# Altium footprint library DRY_TI.PcbLib: 1 footprints
Each footprint in its own frame and in the unit in brackets; x right, y up, seen from the top. Pads: shape width x height; smd on the part's side, far side on the other; paste and mask are expansions set on the pad; w line width, h text height; cw(c..) or ccw(c..) is an arc to the next point about the centre after c.
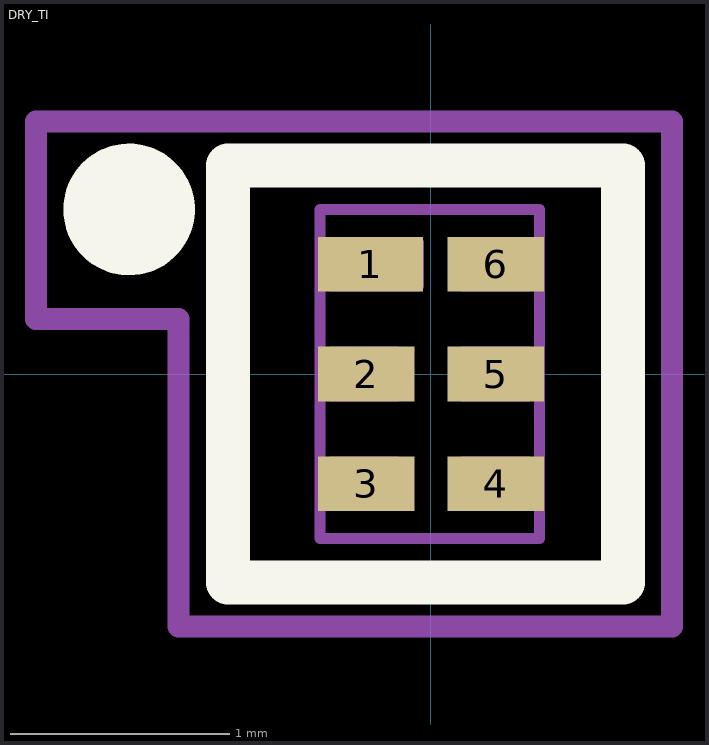
[diagram p0: the footprint, top view; thin cyan lines are the x and y axes]

## DRY_TI [mm]
pads (6):
  rect 0.48x0.25 smd: 1(-0.275,0.5)
  rect 0.44x0.25 smd: 2(-0.295,0) 3(-0.295,-0.5) 4(0.295,-0.5) 5(0.295,0) 6(0.295,0.5)
Top Overlay:
  circle w0.3: c-1.375,0.75 r0.15
  lines w0.2: -0.925,0.92 -0.925,-0.95 0.875,-0.95 0.875,0.95 -0.925,0.95
Mechanical 13:
  lines w0.05: -0.505,-0.75 0.495,-0.75 0.495,0.75 -0.505,0.75 -0.505,-0.75 ; -0.455,-0.6 -0.155,-0.6 -0.155,-0.4 -0.455,-0.4 -0.455,-0.6 ; -0.455,-0.1 -0.455,0.1 -0.155,0.1 -0.155,-0.1 -0.455,-0.1 ; -0.455,0.4 -0.055,0.4 -0.055,0.6 -0.455,0.6 -0.455,0.4 ; 0.145,-0.6 0.145,-0.4 0.445,-0.4 0.445,-0.6 0.145,-0.6 ; 0.145,-0.1 0.445,-0.1 0.445,0.1 0.145,0.1 0.145,-0.1 ; 0.145,0.4 0.145,0.6 0.445,0.6 0.445,0.4 0.145,0.4
Mechanical 15:
  lines w0.1: -1.8,0.25 -1.15,0.25 -1.15,-1.15 1.1,-1.15 1.1,1.15 -1.8,1.15 -1.8,0.25
3D body: height 0.55, standoff -0.05, extent -0.5,-0.725 0.5,0.725